# Altium schematic symbol library dianzu.SchLib: 21 symbols
Pins are listed as number, name and electrical type; pins without a type are passive.

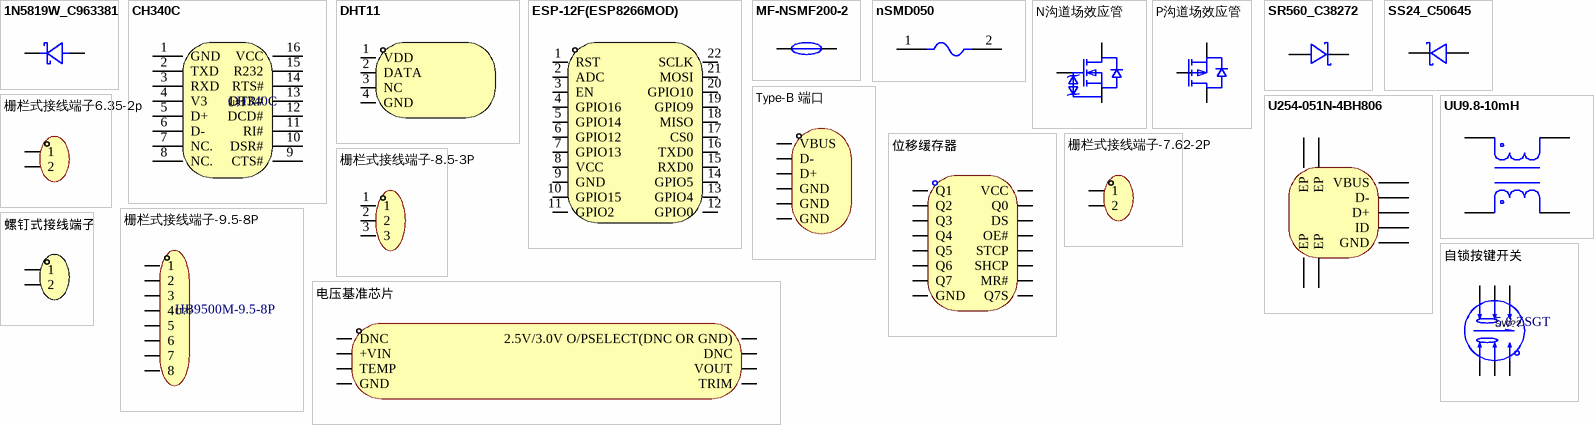
[diagram p0: symbols 1N5819W_C963381 to 螺钉式接线端子]

## 1N5819W_C963381
designator D??  (value not drawn)
肖特基二极管40V 平均整流电流(Io)：350mA 正向压降(Vf)：600mV@200mA; Manufacturer: JSMSEMI(杰盛微); Add into BOM: yes; Diode Configuration: 独立式; Reverse Voltage (Vr): 40V; Average Rectified Current (Io): 350mA; Reverse Leakage Current (Ir): 5uA@30V; Name: 1N5819W; Symbol: 1N5819W_C963381; Device: 1N5819W_C963381; LCSC Part Name: 40V 350mA 600mV@200mA; Supplier Part: C963381; Manufacturer Part: 1N5819W; Supplier Footprint: SOD-123; JLCPCB Part Class: Extended Part; Datasheet: https://atta.szlcsc.com/upload/public/pdf/source/20211201/C266112E93E924DFE0C071C9A8E85281.pdf; Supplier: LCSC; Convert to PCB: yes; Forward Voltage (Vf@If): 600mV@200mA
footprint SOD-123_L2.7-W1.6-LS3.7-R-RD
3D model SOD-123_L2.7-W1.6-H1.2-LS3.7-R-RD
pins: 1 A, 2 C

## CH340C
designator U??
USB 2.0 数据速率：2Mbps USB转串口芯片 CH340; Manufacturer: WCH(南京沁恒); Add into BOM: yes; Applications Function: 收发器; Protocol: USB 2.0; Data Rate: 2Mbps; Supply Voltage: 3.3V；5V; Name: CH340C; Symbol: CH340C; Device: CH340C; LCSC Part Name: CH340C USB转串口芯片 CH340; Supplier Part: C84681; Manufacturer Part: CH340C; Supplier Footprint: SOP-16; JLCPCB Part Class: Extended Part; Datasheet: https://atta.szlcsc.com/upload/public/pdf/source/20200819/C84681_ADBED554CE321879DBD6B1D06488689C.pdf; Supplier: LCSC; Convert to PCB: yes
footprint SOP-16_L10.0-W3.9-P1.27-LS6.0-BL
3D model SOP-16_L9.9-W3.9-H1.5-LS6.0-P1.27
pins: 1 GND, 2 TXD, 3 RXD, 4 V3, 5 D+, 6 D-, 7 NC., 8 NC., 9 CTS#, 10 DSR#, 11 RI#, 12 DCD#, 13 DTR#, 14 RTS#, 15 R232, 16 VCC

## DHT11
designator U??  (value not drawn)
温湿度传感器; Manufacturer: 广州奥松; Add into BOM: yes; Name: DHT11; Symbol: DHT11; Device: DHT11; LCSC Part Name: DHT11  电容式传感器; Supplier Part: C117051; Manufacturer Part: DHT11; Supplier Footprint: SIP-4; JLCPCB Part Class: Extended Part; Datasheet: https://atta.szlcsc.com/upload/public/pdf/source/20170703/1499081238365.pdf; Supplier: LCSC; Convert to PCB: yes
footprint SENSOR-TH_DHT11
3D model SENSOR-TH_DHT11
pins: 1 VDD, 2 DATA, 3 NC, 4 GND

## ESP-12F(ESP8266MOD)
designator U??  (value not drawn)
ESP8266 天线形式：板载PCB天线; Manufacturer: Ai-Thinker(安信可); Name: 2.4GHz; Add into BOM: yes; Value: 2.4GHz; Output Power: 16dBm; Support Interface: GPIO；UART；I2C；PWM；SPI；ADC; Antenna Type: PCB 板载天线; Wireless Standard: 802.11b/g/n; Operating Voltage: 3.3V; Receive  Current: 120mA; Send  Current: 170mA; Sensitivity: -90dBm; Symbol: ESP-12F(ESP8266MOD); Device: ESP-12F(ESP8266MOD); LCSC Part Name: 完整的802.11b/g/n Wi-Fi的SoC模块; Supplier Part: C82891; Manufacturer Part: ESP-12F(ESP8266MOD); Supplier Footprint: SMD,16x24mm; JLCPCB Part Class: Extended Part; Datasheet: https://atta.szlcsc.com/upload/public/pdf/source/20210219/C82891_ABD84A460F4F056A2757267CCCA4B508.pdf; Supplier: LCSC; Convert to PCB: yes; Core Processor: ESP8266; Operating Temperature: -40℃~+85℃
footprint WIFIM-SMD_ESP-12F-ESP8266MOD
3D model WIFIM-SMD_WIFI-L24.0-W16.0-H3.1
pins: 1 RST, 2 ADC, 3 EN, 4 GPIO16, 5 GPIO14, 6 GPIO12, 7 GPIO13, 8 VCC, 9 GND, 10 GPIO15, 11 GPIO2, 12 GPIO0, 13 GPIO4, 14 GPIO5, 15 RXD0, 16 TXD0, 17 CS0, 18 MISO, 19 GPIO9, 20 GPIO10, 21 MOSI, 22 SCLK

## MF-NSMF200-2
designator U??  (value not drawn)
自恢复保险丝 4A 2.0A，6V; Manufacturer: BOURNS; Add into BOM: yes; Operating Voltage (Max): 6V; Current Rating (Max): 100A; Hold Current: 2A; Resistance - Initial (Ri) (Min): 85mΩ; Resistance - Post Trip (R1) (Max): 20mΩ; Maximum Time to Trip: 1s; Name: MF-NSMF200-2; Symbol: MF-NSMF200-2; Device: MF-NSMF200-2; LCSC Part Name: 6V 2A 1206自恢复; Supplier Part: C89656; Manufacturer Part: MF-NSMF200-2; Supplier Footprint: 1206; JLCPCB Part Class: Extended Part; Datasheet: https://atta.szlcsc.com/upload/public/pdf/source/20161125/1480068355439.pdf; Supplier: LCSC; Convert to PCB: yes; Trip Current: 4A; Operating Temperature: -40℃~+85℃
footprint F1206
3D model F1206_L3.2-W1.7-H0.6
pins: 1, 2

## nSMD050
designator F??  (value not drawn)
自恢复保险丝1A 0.5A ，6V; Manufacturer: 台湾陆海; Add into BOM: yes; Operating Voltage (Max): 6V; Current Rating (Max): 100A; Hold Current: 500mA; Trip Current: 1A; Name: nSMD050; Symbol: nSMD050; Device: nSMD050; LCSC Part Name: 6V 500mA 1206自恢复; Supplier Part: C69688; Manufacturer Part: nSMD050; Supplier Footprint: 1206; JLCPCB Part Class: Extended Part; Datasheet: https://atta.szlcsc.com/upload/public/pdf/source/20160331/1459396375403.pdf; Supplier: LCSC; Convert to PCB: yes
footprint F1206
3D model F1206_L3.2-W1.7-H0.6
pins: 1, 2

## N沟道场效应管
designator Q??, comment AO3416A  (value not drawn)
N沟道场效应管 漏源电压(Vdss)：20V 连续漏极电流(Id)：6.5A 功率(Pd)：1.4W 22mΩ; Manufacturer: UMW(友台半导体); Add into BOM: yes; Type: N沟道; Drain Source Voltage (Vdss): 20V; Continuous Drain Current (Id): 6.5A; Power Dissipation (Pd): 1.4W; Drain Source On Resistance (RDS(on)@Vgs,Id): 22mΩ@4.5V,6.5A; Gate Threshold Voltage (Vgs(th)@Id): 1.1V@250uA; Name: AO3416A; Symbol: AO3416A; Device: AO3416A; LCSC Part Name: N沟道 20V 6.5A; Supplier Part: C347499; Manufacturer Part: AO3416A; Supplier Footprint: SOT-23(TO-236); JLCPCB Part Class: Extended Part; Datasheet: https://atta.szlcsc.com/upload/public/pdf/source/20220920/1BC694883941CD8D53EC6CEF7FAAF984.pdf; Supplier: LCSC; Convert to PCB: yes
footprint SOT-23-3_L3.0-W1.7-P0.95-LS2.9-BR
3D model SOT-23-3L_L2.9-W1.6-H1.1-LS2.8-P0.95
pins: 1 G, 2 S, 3 D

## P沟道场效应管
designator Q??, comment SPP80P06PH-VB  (value not drawn)
漏源电压(Vdss)：60V 连续漏极电流(Id)：53A 功率(Pd)：104.2W 导通电阻(RDS(on)@Vgs,Id)：19mΩ@10V,30A; Manufacturer: VBsemi(微碧); Add into BOM: yes; Type: P沟道; Drain Source Voltage (Vdss): 60V; Continuous Drain Current (Id): 53A; Power Dissipation (Pd): 104.2W; Gate Threshold Voltage (Vgs(th)@Id): 3V@250uA; Name: SPP80P06PH-VB; Symbol: SPP80P06PH; Device: SPP80P06PH-VB; LCSC Part Name: P沟道 60V 53A; Supplier Part: C878809; Manufacturer Part: SPP80P06PH-VB; Supplier Footprint: TO-220AB-3; JLCPCB Part Class: Extended Part; Datasheet: https://atta.szlcsc.com/upload/public/pdf/source/20200929/C878809_766C4693FF0DA3327C10E95104D944AE.pdf; Supplier: LCSC; Convert to PCB: yes; Drain Source On Resistance (RDS(on)@Vgs,Id): 19mΩ@10V,30A
footprint TO-220AB-3_L10.3-W5.0-P2.54-L
3D model TO-220AB_3PIN-L10.5-W5.0-H20.0-P2.54
pins: 1 G, 2 D, 3 S

## SR560_C38272
designator D??  (value not drawn)
肖基特二极管 插件60V,5A,VF=0.7V; Manufacturer: MDD; Name: SR560; Add into BOM: yes; Symbol: SR560; Device: SR560_C38272; LCSC Part Name: SR560 编带; Supplier Part: C38272; Manufacturer Part: SR560; Supplier Footprint: DO-201AD; JLCPCB Part Class: Extended Part; Datasheet: https://atta.szlcsc.com/upload/public/pdf/source/20190305/C38272_6BCF17FB190BC02A3BD88B78418667FF.pdf; Supplier: LCSC; Convert to PCB: yes
footprint DO-201AD_BD5.3-L8.4-P12.50-D1.4-FD
3D model DO-201AD_D5.3-L8.4-P15.24
pins: 1 A, 2 K

## SS24_C50645
designator D??  (value not drawn)
肖特基二极管 0V,2A,VF=0.5V@2A; Manufacturer: MDD; Name: SS24; Add into BOM: yes; Reverse Voltage (Vr): 40V; Forward Voltage (Vf@If): 550mV@2A; Symbol: SS24; Device: SS24_C50645; LCSC Part Name: 40V 2A 550mV@2A SMA （相似料：C364270）; Supplier Part: C50645; Manufacturer Part: SS24; Supplier Footprint: SMA(DO-214AC); JLCPCB Part Class: Extended Part; Datasheet: https://atta.szlcsc.com/upload/public/pdf/source/20190304/C50645_5B6F2047F1B1EB9F2588B24BC6E81306.pdf; Supplier: LCSC; Convert to PCB: yes; Average Rectified Current (Io): 2A
footprint SMA_L4.3-W2.6-LS5.2-RD
3D model SMA_L4.3-W2.6-LS5.2-RD
pins: 1 K, 2 A

## Type-B 端口
designator USB??, comment USB-B12-BRW  (value not drawn)
Type-B 端口 USB 2.0 母座  4P  直插 额定电流 - 电源：1.5A; Manufacturer: XUNPU(讯普); Add into BOM: yes; Number of Contacts: 4; Number of Ports: 1; Current Rating - Power (Max): 1.5A; Welding Temperature (Max): 260℃; Name: USB-B12-BRW; Symbol: USB-B12-BRW; Device: USB-B12-BRW; LCSC Part Name: Type-B 母座 直插; Supplier Part: C720550; Manufacturer Part: USB-B12-BRW; Supplier Footprint: 插件; JLCPCB Part Class: Extended Part; Supplier: LCSC; Convert to PCB: yes; Connector Type: Type-B; Standard: USB 2.0; Gender: 母座; Mounting Style: 直插; Operating Temperature Range: -20℃~+70℃
footprint USB-B-TH_USB-B12-BRW
pins: 1 VBUS, 2 D-, 3 D+, 4 GND, 5 GND, 6 GND

## U254-051N-4BH806
designator USB??  (value not drawn)
USB连接器 Micro-B  USB 2.0  母座  5P; Manufacturer: XKB Connectivity(中国星坤); Add into BOM: yes; Number of Ports: 1; Current Rating - Power (Max): 1A; Welding Temperature (Max): 260℃; Name: U254-051N-4BH806; Symbol: U254-051N-4BH806; Device: U254-051N-4BH806; LCSC Part Name: Micro-B 母座 卧贴; Supplier Part: C319170; Manufacturer Part: U254-051N-4BH806; Supplier Footprint: SMD; JLCPCB Part Class: Extended Part; Datasheet: https://atta.szlcsc.com/upload/public/pdf/source/20200227/C319170_F6FB71A4890E6895B9081D2D7B14A58F.pdf; Supplier: LCSC; Convert to PCB: yes; Connector Type: Micro-B; Standard: USB 2.0; Gender: 母座; Number of Contacts: 5P; Mounting Style: 卧贴; Contact Material: 铜合金; Contact Plating: 金; Operating Temperature Range: -40℃~+85℃
footprint MICRO-USB-SMD_U254-051N-4BH806
3D model MICRO-USB-SMD_U254-051N-4BH806
pins: 1 VBUS, 2 D-, 3 D+, 4 ID, 5 GND, 6 EP, 7 EP, 8 EP, 9 EP

## UU9.8-10mH
designator L??  (value not drawn)
共模滤波电感; Manufacturer: FH(风华); Add into BOM: yes; Number of Lines: 2; Inductance @ Frequency: 10mH@1kHz; DC Resistance (DCR): 800mΩ; Withstanding Voltage: 1kV; Name: UU9.8-10mH; Symbol: UU9.8-10MH; Device: UU9.8-10mH; LCSC Part Name: 两路 插件共模滤波器; Supplier Part: C148474; Manufacturer Part: UU9.8-10mH; Supplier Footprint: 插件; JLCPCB Part Class: Extended Part; Datasheet: https://atta.szlcsc.com/upload/public/pdf/source/20210713/C148474_656501625637B4BA0D3972AB204D3908.pdf; Supplier: LCSC; Convert to PCB: yes; Impedance @ Frequency: -; Current Rating: -; Voltage Rating - DC: -; Operating Temperature: -; Voltage Rating: -
footprint FILTER-TH_4P-L17.0-W12.0-P7.00-D0.6-S8.00
pins: 1, 2, 3, 4

## 位移缓存器
designator U??, comment 74HC595D,118  (value not drawn)
三态输出 串行至串行或并行移位寄存器2V~6V 型号中的数字; Manufacturer: Nexperia(安世); Add into BOM: yes; Number of Bits per Element: 8; Output Type: 三态; Function: 串行至并行或串行; Supply Voltage: 2V~6V; Name: 74HC595D,118; Symbol: 74HC595D,118; Device: 74HC595D,118; LCSC Part Name: 三态输出 串行至串行或并行移位寄存器; Supplier Part: C5947; Manufacturer Part: 74HC595D,118; Supplier Footprint: SOP-16; JLCPCB Part Class: Basic Part; Datasheet: https://atta.szlcsc.com/upload/public/pdf/source/20140108/1457706668762.pdf; Supplier: LCSC; Convert to PCB: yes; Series: 74HC; Operating Temperature: 40℃~+125℃
footprint SOIC-16_L9.9-W3.9-P1.27-LS6.0-BL
3D model SOIC-16_L9.9-W3.9-H1.8-LS6.0-P1.27
pins: 1 Q1, 2 Q2, 3 Q3, 4 Q4, 5 Q5, 6 Q6, 7 Q7, 8 GND, 9 Q7S, 10 MR#, 11 SHCP, 12 STCP, 13 OE#, 14 DS, 15 Q0, 16 VCC

## 栅栏式接线端子6.35-2p
designator U??, comment JL635-63502B01  (value not drawn)
6.35mm 1x2P; Manufacturer: JILN(锦凌); Add into BOM: yes; Barrier Type: 三面; Number of PINs Per Row: 2; Pin Location: 边脚; Current Rating (Max): 20A; Voltage Rating (Max): 300V; Wire Gauge - AWG: 16~22; Name: JL635-63502B01; Symbol: JL635-63502B01; Device: JL635-63502B01; LCSC Part Name: 6.35mm 1x2P 每排P数:2 排数:1 直针 边脚; Supplier Part: C409150; Manufacturer Part: JL635-63502B01; Supplier Footprint: 插件,P=6.35mm; JLCPCB Part Class: Extended Part; Datasheet: https://atta.szlcsc.com/upload/public/pdf/source/20190822/C409150_B282659771C8BCFCDCE5970BAD47B82D.pdf; Supplier: LCSC; Convert to PCB: yes; Pitch: 6.35mm; Structure: 1x2P; Number of Rows: 1; Mounting Style: 直针; Wire Gauge - mm2: -; Operating Temperature Range: -40℃~+105℃; Color: 黑色
footprint CONN-TH_JL635-63502B01
3D model CONN-TH_JL635-63502B01
pins: 1, 2

## 栅栏式接线端子-7.62-2P
designator U??, comment KF7.62-2P  (value not drawn)
7.62mm  1x2P; Manufacturer: KEFA(科发); Add into BOM: yes; Barrier Type: 两面; Number of PINs Per Row: 2; Pin Location: 边脚; Current Rating (Max): 24A; Voltage Rating (Max): 450V; Wire Gauge - AWG: 12~22; Wire Gauge - mm?: 2.5; Name: KF7.62-2P; Symbol: KF7.62-2P; Device: KF7.62-2P; LCSC Part Name: 7.62mm 每排P数:2 排数:1 直针 边脚 黑色; Supplier Part: C707824; Manufacturer Part: KF7.62-2P; Supplier Footprint: 直插,P=7.62mm; JLCPCB Part Class: Extended Part; Datasheet: https://atta.szlcsc.com/upload/public/pdf/source/20200911/C707824_085D20F539EB43FE255F4A82729CD447.pdf; Supplier: LCSC; Convert to PCB: yes; Pitch: 7.62mm; Number of Rows: 1; Mounting Style: 直针; Operating Temperature Range: -40℃~+105℃; Color: 黑色
footprint CONN-TH_KF7.62-2P
pins: 1, 2

## 栅栏式接线端子-8.5-3P
designator U??, comment KF8500-8.5-3P  (value not drawn)
8.5mm 1x3P  24A  450V 线规 - AWG：12~22 线规 - mm2：2.5; Manufacturer: KEFA(科发); Add into BOM: yes; Barrier Type: 两面; Number of PINs Per Row: 3; Pin Location: 边脚; Wire Gauge - AWG: 12~22; Wire Gauge - mm2: 2.5; Name: KF8500-8.5-3P; Symbol: KF8500-8.5-3P; Device: KF8500-8.5-3P; LCSC Part Name: 8.5mm 1x3P 每排P数:3 排数:1 直针 边脚; Supplier Part: C707834; Manufacturer Part: KF8500-8.5-3P; Supplier Footprint: 插件,P=8.5mm; JLCPCB Part Class: Extended Part; Datasheet: https://atta.szlcsc.com/upload/public/pdf/source/20230331/38F39BA915725C9159B9A169281B3E59.pdf; Supplier: LCSC; Convert to PCB: yes; Pitch: 8.5mm; Structure: 1x3P; Number of Rows: 1; Mounting Style: 直针; Current Rating (Max): 24A; Voltage Rating (Max): 450V; Operating Temperature Range: -40℃~+105℃; Color: 黑色
footprint CONN-TH_KF8500-8.5-3P
3D model CONN-TH_KF8500-8.5-3P
pins: 1, 2, 3

## 栅栏式接线端子-9.5-8P
designator U??, comment HB9500M-9.5-8P
9.5mm 1x8P  32A 750V 线规 - AWG：12~22 线规 - mm2：4 工作温度范围：-40℃~+105℃ 颜色：黑色; Manufacturer: KANGNEX(康奈克斯电气); Add into BOM: yes; Barrier Type: 带盖板; Number of PINs Per Row: 8; Pin Location: 边脚; Wire Gauge - AWG: 12~22; Wire Gauge - mm2: 4; Name: HB9500M-9.5-8P; Symbol: HB9500M-9.5-8P; Device: HB9500M-9.5-8P; LCSC Part Name: 9.5mm 1x8P 每排P数:8 排数:1 直针 边脚; Supplier Part: C315245; Manufacturer Part: HB9500M-9.5-8P; Supplier Footprint: 插件,P=9.5mm; JLCPCB Part Class: Extended Part; Datasheet: https://atta.szlcsc.com/upload/public/pdf/source/20191225/C315245_3594694ED82A6269F262C04DBCBCBE80.pdf; Supplier: LCSC; Convert to PCB: yes; Pitch: 9.5mm; Structure: 1x8P; Number of Rows: 1; Mounting Style: 直针; Current Rating (Max): 32A; Voltage Rating (Max): 750V; Operating Temperature Range: -40℃~+105℃; Color: 黑色
footprint CONN-TH_HB9500M-9.5-8P
3D model CONN-TH_HB9500M-9.5-8P
pins: 1, 2, 3, 4, 5, 6, 7, 8

## 电压基准芯片
designator U??, comment AD780ARZ  (value not drawn)
可编程 输入：4V~36V 输出：2.5V；3V 输出电流：10mA 精度：±0.2%；±0.17%; Manufacturer: ADI(亚德诺)/LINEAR(凌特); Symbol: AD780ARZ_C578527; Add into BOM: yes; Reference Type: 串联；并联; Output Type: 可调; Input Voltage: 4V~36V; Output Current: 10mA; Temperature Coefficient: 7ppm/℃; Supply Current: 1mA; Noise - 1/10Hz to 10Hz: 4uVp-p; Name: AD780ARZ; Device: AD780ARZ; LCSC Part Name: 串联 并联 10mA; Supplier Part: C578527; Manufacturer Part: AD780ARZ; Supplier Footprint: SOIC-8; JLCPCB Part Class: Extended Part; Datasheet: https://atta.szlcsc.com/upload/public/pdf/source/20191127/C459887_A064405C3B9E940C4831E9513F2D439D.pdf; Supplier: LCSC; Convert to PCB: yes; Tolerance: ±0.2%；±0.17%; Noise - 10Hz to 10kHz: -; Operating Temperature: -40℃~+85℃@(Ta)
footprint SOIC-8_L4.9-W3.9-P1.27-LS6.0-BL
3D model SOIC-8_L4.9-W3.9-H1.7-LS6.0-P1.27
pins: 1 DNC, 2 +VIN, 3 TEMP, 4 GND, 5 TRIM, 6 VOUT, 7 DNC, 8 2.5V/3.0V O/PSELECT(DNC OR GND)

## 自锁按键开关
designator SW??, comment 5.8 ZSGT
30V 双刀双掷 直插 自锁 泡泡机开关; Manufacturer: SHOU HAN(首韩); Add into BOM: yes; Contact Current: 110mA; Insulation Resistance: 100MΩ; Actuator Style: 方形按钮; Actuator/Cap Color: 白色; With Lamp: 无; Pin Style: PC引脚; Operating Force: 150gf@±50gf; Mechanical Life: 100000; Name: 5.8 ZSGT; Symbol: 5.8 ZSGT; Device: 5.8 ZSGT; LCSC Part Name: 5.8*5.8有头/高头 带锁/自锁开关 泡泡机开关; Supplier Part: C2681587; Manufacturer Part: 5.8 ZSGT; Supplier Footprint: 插件; JLCPCB Part Class: Extended Part; Datasheet: https://atta.szlcsc.com/upload/public/pdf/source/20210107/C2681587_CDDDDA4A1C7AC9FEB01815B75893A6BA.pdf; Supplier: LCSC; Convert to PCB: yes; Voltage Rating (DC): 30V; Circuit: 双刀双掷; Mounting Style: 直插; Self Lock / No Lock: 自锁; Operating Temperature: -10℃~+70℃
footprint SW-TH_5.8ZSGT
pins: 1, 2, 3, 4, 5, 6

## 螺钉式接线端子
designator U??, comment DB301V-5.0-2P-BU-S  (value not drawn)
1x2P 蓝色; Manufacturer: DIBO(地博电气); Add into BOM: yes; Pitch: 5mm; Number of PINs Per Row: 2; Current Rating (Max): 17.5A; Voltage Rating (Max): 250V; Wire Gauge - AWG: 14~22; Wire Gauge - mm?: 1.5; Name: DB301V-5.0-2P-BU-S; Symbol: DB301V-5.0-2P; Device: DB301V-5.0-2P-BU-S; LCSC Part Name: 5mm 排数:1 每排P数:2 直针; Supplier Part: C395882; Manufacturer Part: DB301V-5.0-2P-BU-S; Supplier Footprint: 直插,P=5mm; JLCPCB Part Class: Extended Part; Datasheet: https://atta.szlcsc.com/upload/public/pdf/source/20190611/C395882_ED63B395F1E42B2C84D8982756FF4727.pdf; Supplier: LCSC; Convert to PCB: yes; Number of Rows: 1; Mounting Style: 直针; Operating Temperature Range: -40℃~+120℃; Color: 蓝色
footprint CONN-TH_2P-P5.00_L7.6-W10.0
3D model CONN-TH_DB5.00-LI-2P-301
pins: 1, 2